# Altium footprint library MORNSUN.PcbLib: 2 footprints
Each footprint in its own frame and in the unit in brackets; x right, y up, seen from the top. Pads: shape width x height; smd on the part's side, far side on the other; paste and mask are expansions set on the pad; w line width, h text height; cw(c..) or ccw(c..) is an arc to the next point about the centre after c.
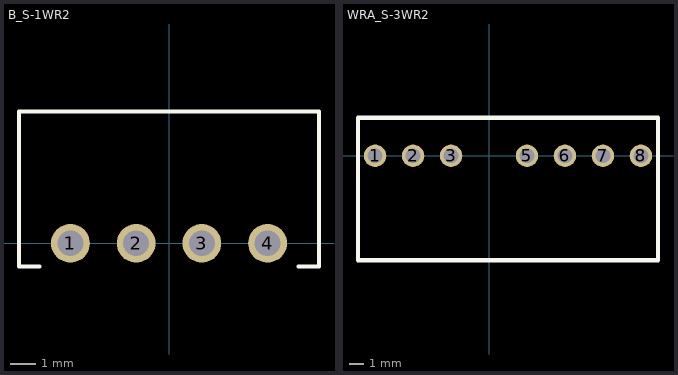
[diagram p0: the footprints below, top view; thin cyan lines are the x and y axes]

## B_S-1WR2 [mm]
height 10.16
pads (4):
  round 1.5 hole 1: 1(-3.81,0) 2(-1.27,0) 3(1.27,0) 4(3.81,0)
Top Overlay:
  lines w0.152: -5,-0.9 -5.8,-0.9 -5.8,5.1 5.8,5.1 5.8,-0.9 5,-0.9
3D body: height 10.16, standoff 0.5, extent -5.8,-0.9 5.8,5.1

## WRA_S-3WR2 [mm]
pads (7):
  round 1.5 hole 1: 1(-7.62,0) 2(-5.08,0) 3(-2.54,0) 5(2.54,0) 6(5.08,0) 7(7.62,0) 8(10.16,0)
Top Overlay:
  lines w0.3: -8.763,-6.985 11.303,-6.985 11.303,2.54 -8.763,2.54 -8.763,-6.985
3D body: height 12, standoff 0.5, extent -8.763,-6.985 11.303,2.54